# Altium footprint library Q's常用端子.PcbLib: 44 footprints (part 3 of 3)
Each footprint in its own frame and in the unit in brackets; x right, y up, seen from the top. Pads: shape width x height; smd on the part's side, far side on the other; paste and mask are expansions set on the pad; w line width, h text height; cw(c..) or ccw(c..) is an arc to the next point about the centre after c.
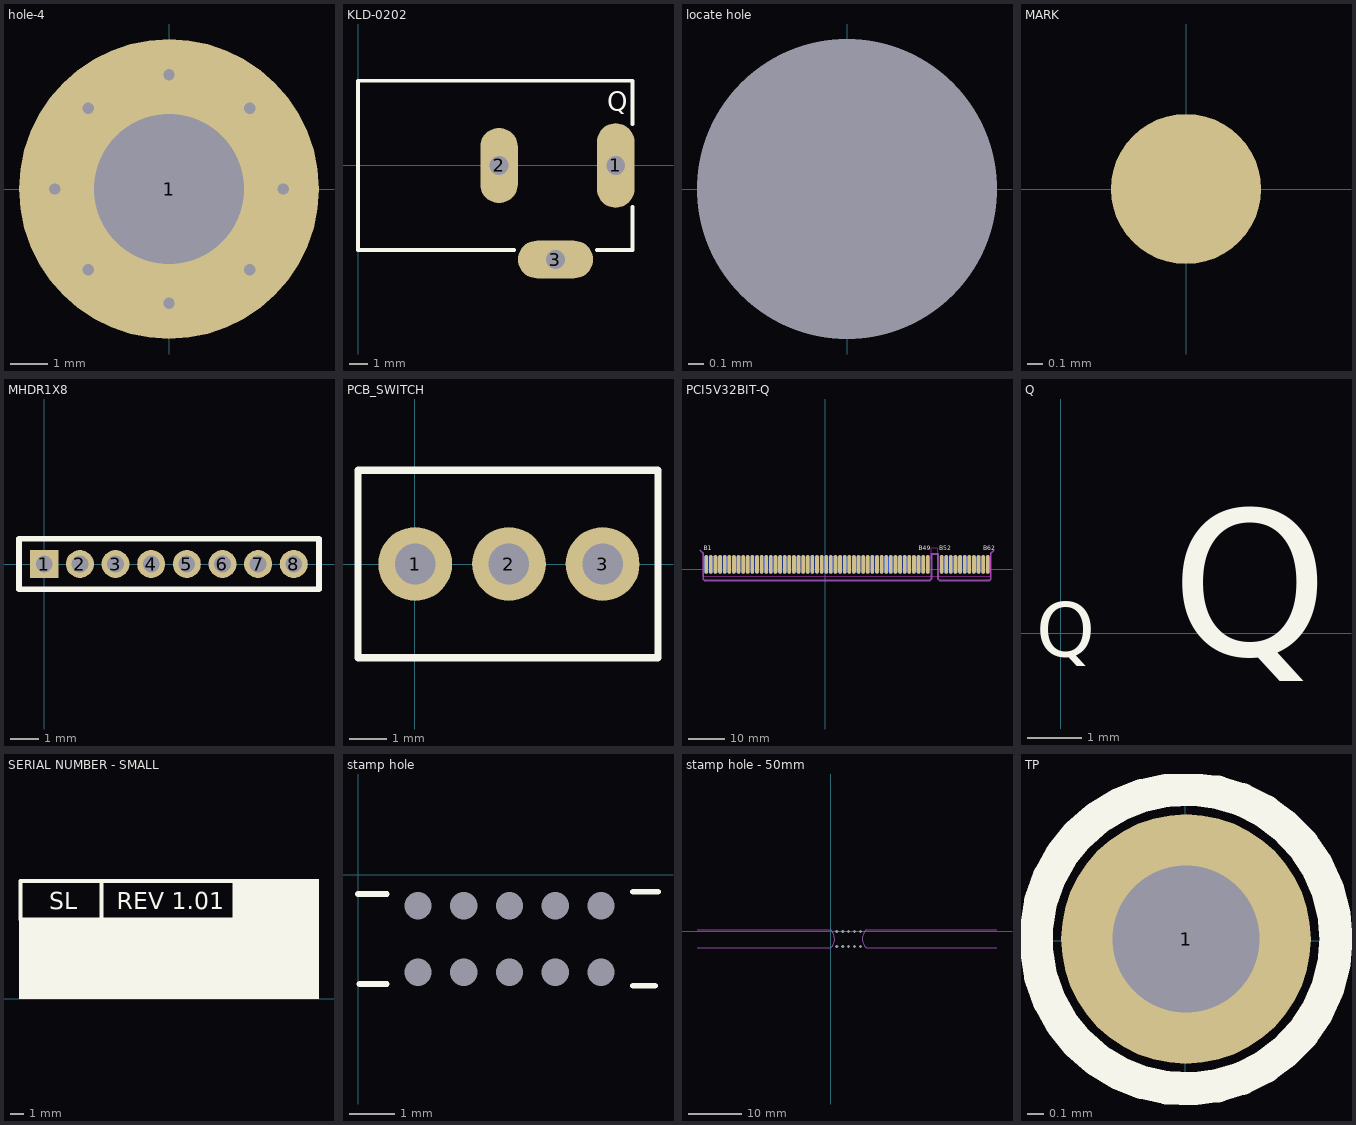
[diagram p2: the footprints below, top view; thin cyan lines are the x and y axes]

## hole-4 [mm] "hole-4mm"
pads (1):
  round 8 hole 4: 1(0,0)
via 2.155,2.155 diameter 0.635 hole 0.305
via 3.048,0 diameter 0.635 hole 0.305
via 2.155,-2.155 diameter 0.635 hole 0.305
via 0,-3.048 diameter 0.635 hole 0.305
via -2.155,-2.155 diameter 0.635 hole 0.305
via -3.048,0 diameter 0.635 hole 0.305
via -2.155,2.155 diameter 0.635 hole 0.305
via 0,3.048 diameter 0.635 hole 0.305

## KLD-0202 [mm]
pads (3):
  oval 2x4.5 hole 1: 1(13.692,-0.001)
  oval 2x4 hole 1: 2(7.492,-0.001)
  oval 4x2 hole 1: 3(10.492,-5.001)
Top Overlay:
  lines w0.2: 8.292,-4.501 -0.008,-4.501 -0.008,4.499 14.592,4.499 14.592,2.199 ; 12.692,-4.501 14.592,-4.501 14.592,-2.201
  text "Q" at 13.233,2.921 h1.02
3D body: height 8, standoff 0, extent 13.111,2.814 14.001,4.059
3D body: height 7.62, standoff 0, extent 0,-4.445 14.605,4.445

## locate hole [mm]
pads (1):
  round 0 hole 2 unplated: ""(0,0)

## MARK [mm]
pads (1):
  round 1 smd: ""(0,0)
Top Solder:
  circle w1: c0,0 r1

## MHDR1X8 [mm] "Connector; Header; 8 Position"
pads (8):
  rect 1x1 hole 0.6: 1(0,0)
  round 1 hole 0.6: 2(1.27,0) 3(2.54,0) 4(3.81,0) 5(5.08,0) 6(6.35,0) 7(7.62,0) 8(8.89,0)
Top Overlay:
  lines w0.2: -0.9,-0.9 -0.9,0.9 9.79,0.9 9.79,-0.9 -0.9,-0.9

## PCB_SWITCH [mm]
pads (3):
  round 2 hole 1.1: 1(0.011,0.005) 2(2.551,0.005) 3(5.091,0.005)
Top Overlay:
  lines w0.2: -1.539,-2.535 6.591,-2.535 6.591,2.545 -1.539,2.545 -1.539,-2.535
3D body: height 5.08, standoff 0, extent -1.524,-2.54 6.604,2.54
3D body: height 15, standoff 0, extent 1.816,-0.724 3.264,0.724
3D body: height 8, standoff 0, extent 0.258,-2.282 4.822,2.282

## PCI5V32BIT-Q [mil]
pads (120):
  oval 40x200 smd far side: A1(-1287,55) A2(-1237,55) A3(-1187,55) A4(-1137,55) A5(-1087,55) A6(-1037,55) A7(-987,55) A8(-937,55) A9(-887,55) A10(-837,55) A11(-787,55) A12(-737,55) A13(-687,55) A14(-637,55) A15(-587,55) A16(-537,55) A17(-487,55) A18(-437,55) A19(-387,55) A20(-337,55) A21(-287,55) A22(-237,55) A23(-187,55) A24(-137,55) A25(-87,55) A26(-37,55) A27(13,55) A28(63,55) A29(113,55) A30(163,55) A31(213,55) A32(263,55) A33(313,55) A34(363,55) A35(413,55) A36(463,55) A37(513,55) A38(563,55) A39(613,55) A40(663,55) A41(713,55) A42(763,55) A43(813,55) A44(863,55) A45(913,55) A46(963,55) A47(1013,55) A48(1063,55) A49(1113,55) A52(1263,55) A53(1313,55) A54(1363,55) A55(1413,55) A56(1463,55) A57(1513,55) A58(1563,55) A59(1613,55) A60(1663,55) A61(1713,55) A62(1763,55)
  oval 40x200 smd: B1(-1287,55) B2(-1237,55) B3(-1187,55) B4(-1137,55) B5(-1087,55) B6(-1037,55) B7(-987,55) B8(-937,55) B9(-887,55) B10(-837,55) B11(-787,55) B12(-737,55) B13(-687,55) B14(-637,55) B15(-587,55) B16(-537,55) B17(-487,55) B18(-437,55) B19(-387,55) B20(-337,55) B21(-287,55) B22(-237,55) B23(-187,55) B24(-137,55) B25(-87,55) B26(-37,55) B27(13,55) B28(63,55) B29(113,55) B30(163,55) B31(213,55) B32(263,55) B33(313,55) B34(363,55) B35(413,55) B36(463,55) B37(513,55) B38(563,55) B39(613,55) B40(663,55) B41(713,55) B42(763,55) B43(813,55) B44(863,55) B45(913,55) B46(963,55) B47(1013,55) B48(1063,55) B49(1113,55) B52(1263,55) B53(1313,55) B54(1363,55) B55(1413,55) B56(1463,55) B57(1513,55) B58(1563,55) B59(1613,55) B60(1663,55) B61(1713,55) B62(1763,55)
Top Overlay:
  text "B1" at -1312,210 h48
  text "B49" at 1013,210 h48
  text "B52" at 1238,210 h48
  text "B62" at 1713,210 h48
Bottom Overlay:
  text "A62" at 1838,210 h48
  text "A52" at 1363,210 h48
  text "A1" at -1262,210 h48
  text "A49" at 1138,210 h48
Top Solder:
  rectangle: -1342,-140 1818,160
Bottom Solder:
  rectangle: -1342,-140 1818,160
Keep-Out Layer:
  lines w8: -1322,176 -1322,-75 1797,-75 1797,178 ; 1153,110 1153,235 1223,235 1223,110
Mechanical 1:
  lines w20: -1351,205 -1320,174 -1320,-105 -1305,-120 1137,-120 1152,-105 1152,169 1225,169 1225,-105 1240,-120 1781,-120 1796,-105 1796,174 1827,205

## Q [mil]
Top Overlay:
  text "Q" at -18,-17 h40
  text "Q" at 81,-16 h111.18
3D body: height 100, standoff 0, extent 68.98,-26.02 165.02,107.02
3D body: height 62.99, standoff 0, extent -22.82,-21.22 12.22,27.82

## SERIAL NUMBER - SMALL [mil]
Top Overlay:
  rectangle: 750.08,-0.39 1000.08,354.61
  rectangle: 110.51,-0.39 755.51,240.83
  lines w11.81: 355.08,234.61 355.08,349.61 ; 115.08,234.61 750.08,234.61 750.08,349.61 115.08,349.61 115.08,234.61
  text "REV 1.01" at 400.08,264.61 h51.18
  text "SL" at 200.08,264.61 h51.18

## stamp hole [mm]
pads (10):
  round 0 hole 0.6 unplated: 1(1.303,-2.14) 1(1.303,-0.686) 1(2.303,-2.14) 1(2.303,-0.686) 1(3.303,-2.14) 1(3.303,-0.686) 1(4.303,-2.14) 1(4.303,-0.686) 1(5.303,-2.14) 1(5.303,-0.686)
Top Overlay:
  lines w0.127: -0.008,-0.424 0.622,-0.424 ; 0.027,-2.389 0.622,-2.389 ; 6,-2.43 6.486,-2.43 ; 6,-0.377 6.549,-0.377

## stamp hole - 50mm [mm]
pads (10):
  round 0 hole 0.6 unplated: 1(1.1,-2.8) 1(1.1,0) 2(2.2,-2.8) 2(2.2,0) 3(3.3,-2.8) 3(3.3,0) 4(4.4,-2.8) 4(4.4,0) 5(5.5,-2.8) 5(5.5,0)
Mechanical 1:
  lines w0.127: -25,-3.099 0,-3.099 ccw(c-1.727,-1.422) -0.051,0.305 -25,0.305 ; 31,-3.099 6.553,-3.099 cw(c8.28,-1.422) 6.604,0.305 31,0.305

## TP [mil]
pads (1):
  round 60 hole 35.43: 1(0.14,0.45)
Top Overlay:
  circle w8: c0.14,0.45 r36.06
3D body: height 0, standoff 0, extent -35.89,-35.59 36.18,36.48